# Altium footprint library PcbLib1.PcbLib: 9 footprints
Each footprint in its own frame and in the unit in brackets; x right, y up, seen from the top. Pads: shape width x height; smd on the part's side, far side on the other; paste and mask are expansions set on the pad; w line width, h text height; cw(c..) or ccw(c..) is an arc to the next point about the centre after c.
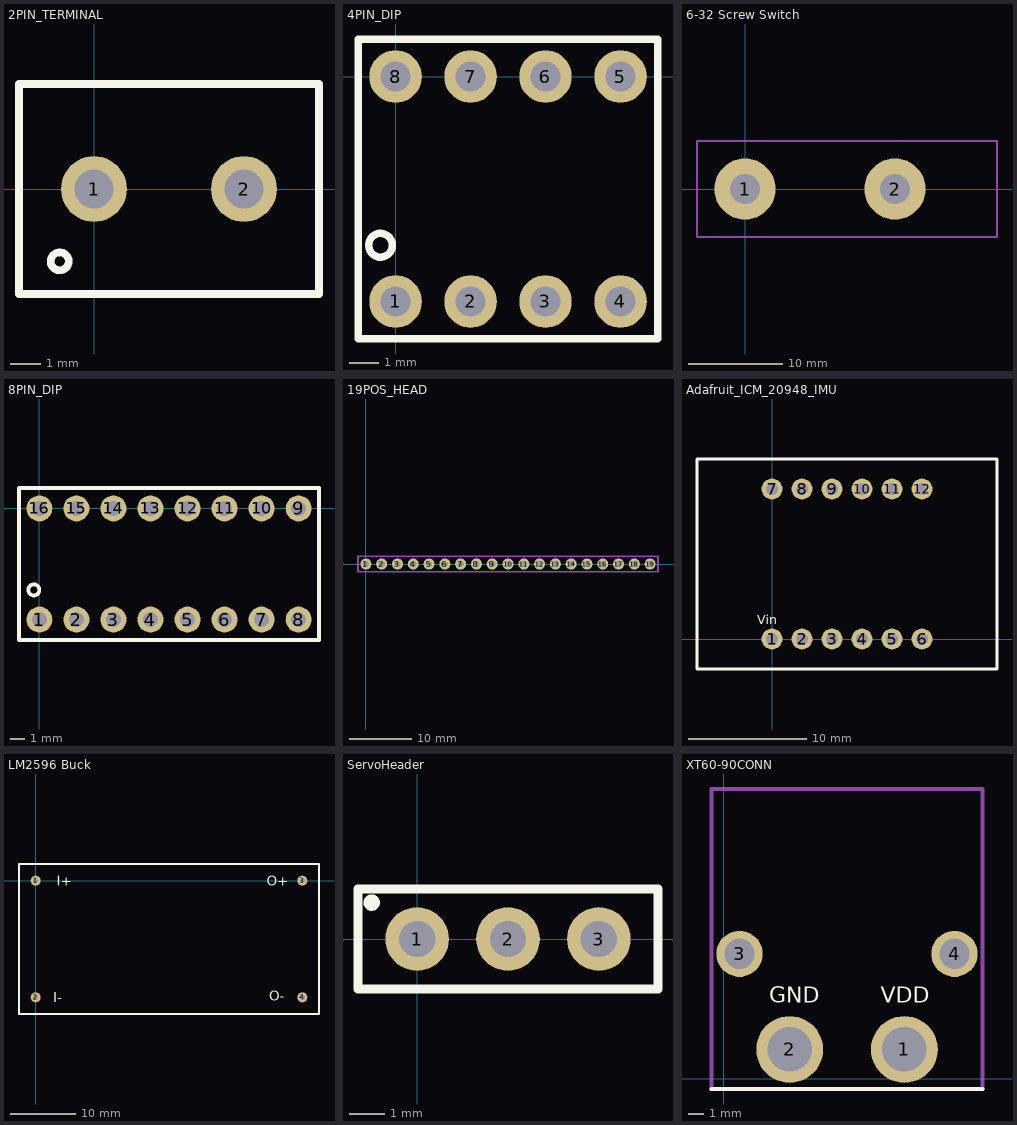
[diagram p0: the footprints below, top view; thin cyan lines are the x and y axes]

## 2PIN_TERMINAL [mm]
pads (2):
  round 2.2 hole 1.3: 1(0,0) 2(5,0)
Top Overlay:
  circle w0.254: c-1.143,-2.413 r0.3
  lines w0.254: -2.5,-3.5 7.5,-3.5 7.5,3.5 -2.5,3.5 -2.5,-3.5

## 4PIN_DIP [mil]
pads (8):
  round 70 hole 40: 1(0,-300) 2(100,-300) 3(200,-300) 4(300,-300) 5(300,0) 6(200,0) 7(100,0) 8(0,0)
Top Overlay:
  circle w10: c-20,-225 r15.81
  lines w10: -50,-350 350,-350 350,50 -50,50 -50,-350

## 6-32 Screw Switch [mil]
pads (2):
  round 255 hole 125: 1(0,0) 2(625,0)
Mechanical 13:
  lines w10: -200,-200 -200,200 1050,200 1050,-200 -200,-200

## 8PIN_DIP [mil] "3/8 spacing"
pads (16):
  round 70 hole 40: 1(0,-300) 2(100,-300) 3(200,-300) 4(300,-300) 5(400,-300) 6(500,-300) 7(600,-300) 8(700,-300) 9(700,0) 10(600,0) 11(500,0) 12(400,0) 13(300,0) 14(200,0) 15(100,0) 16(0,0)
Top Overlay:
  circle w10: c-15,-220 r15
  lines w10: -55,-355 -55,55 755,55 755,-355 -55,-355

## 19POS_HEAD [mil]
pads (19):
  round 70 hole 40: 1(0,0) 2(100,0) 3(200,0) 4(300,0) 5(400,0) 6(500,0) 7(600,0) 8(700,0) 9(800,0) 10(900,0) 11(1000,0) 12(1100,0) 13(1200,0) 14(1300,0) 15(1400,0) 16(1500,0) 17(1600,0) 18(1700,0) 19(1800,0)
Mechanical 13:
  lines w10: -50,-50 1850,-50 1850,50 -50,50 -50,-50

## Adafruit_ICM_20948_IMU [mil]
pads (12):
  round 70 hole 40: 1(0,0) 2(100,0) 3(200,0) 4(300,0) 5(400,0) 6(500,0) 7(0,500) 8(100,500) 9(200,500) 10(300,500) 11(400,500) 12(500,500)
Top Overlay:
  lines w10: -250,-100 750,-100 750,600 -250,600 -250,-100
  text "Vin" at -50,50 h30

## LM2596 Buck [mil]
pads (4):
  round 60 hole 30: 1(0,0) 2(0,-700) 3(1600,0) 4(1600,-700)
Top Overlay:
  lines w10: -100,-800 1700,-800 1700,100 -100,100 -100,-800
  text "I+" at 125,-30 h60
  text "I-" at 105,-730 h60
  text "O+" at 1385,-30 h60
  text "O-" at 1400,-720 h60

## ServoHeader [mil]
pads (3):
  round 70 hole 40: 1(0,0) 2(100,0) 3(200,0)
Top Overlay:
  circle w10: c-50,40 r4
  lines w10: -65,-55 265,-55 265,55 -65,55 -65,-55

## XT60-90CONN [mm]
pads (4):
  round 4.2 hole 2.8: 1(11.35,1.85) 2(4.15,1.85)
  round 2.9 hole 1.9: 3(1,7.85) 4(14.5,7.85)
Top Overlay:
  lines w0.254: -0.762,-0.635 16.256,-0.635
  text "VDD" at 9.852,4.772 h1
  text "GND" at 2.867,4.772 h1
Mechanical 13:
  lines w0.254: -0.762,-0.635 -0.762,18.2 16.256,18.2 16.256,-0.635